# Altium footprint library DXPpcb.PCBLIB: 575 footprints (part 9 of 36)
Each footprint in its own frame and in the unit in brackets; x right, y up, seen from the top. Pads: shape width x height; smd on the part's side, far side on the other; paste and mask are expansions set on the pad; w line width, h text height; cw(c..) or ccw(c..) is an arc to the next point about the centre after c.
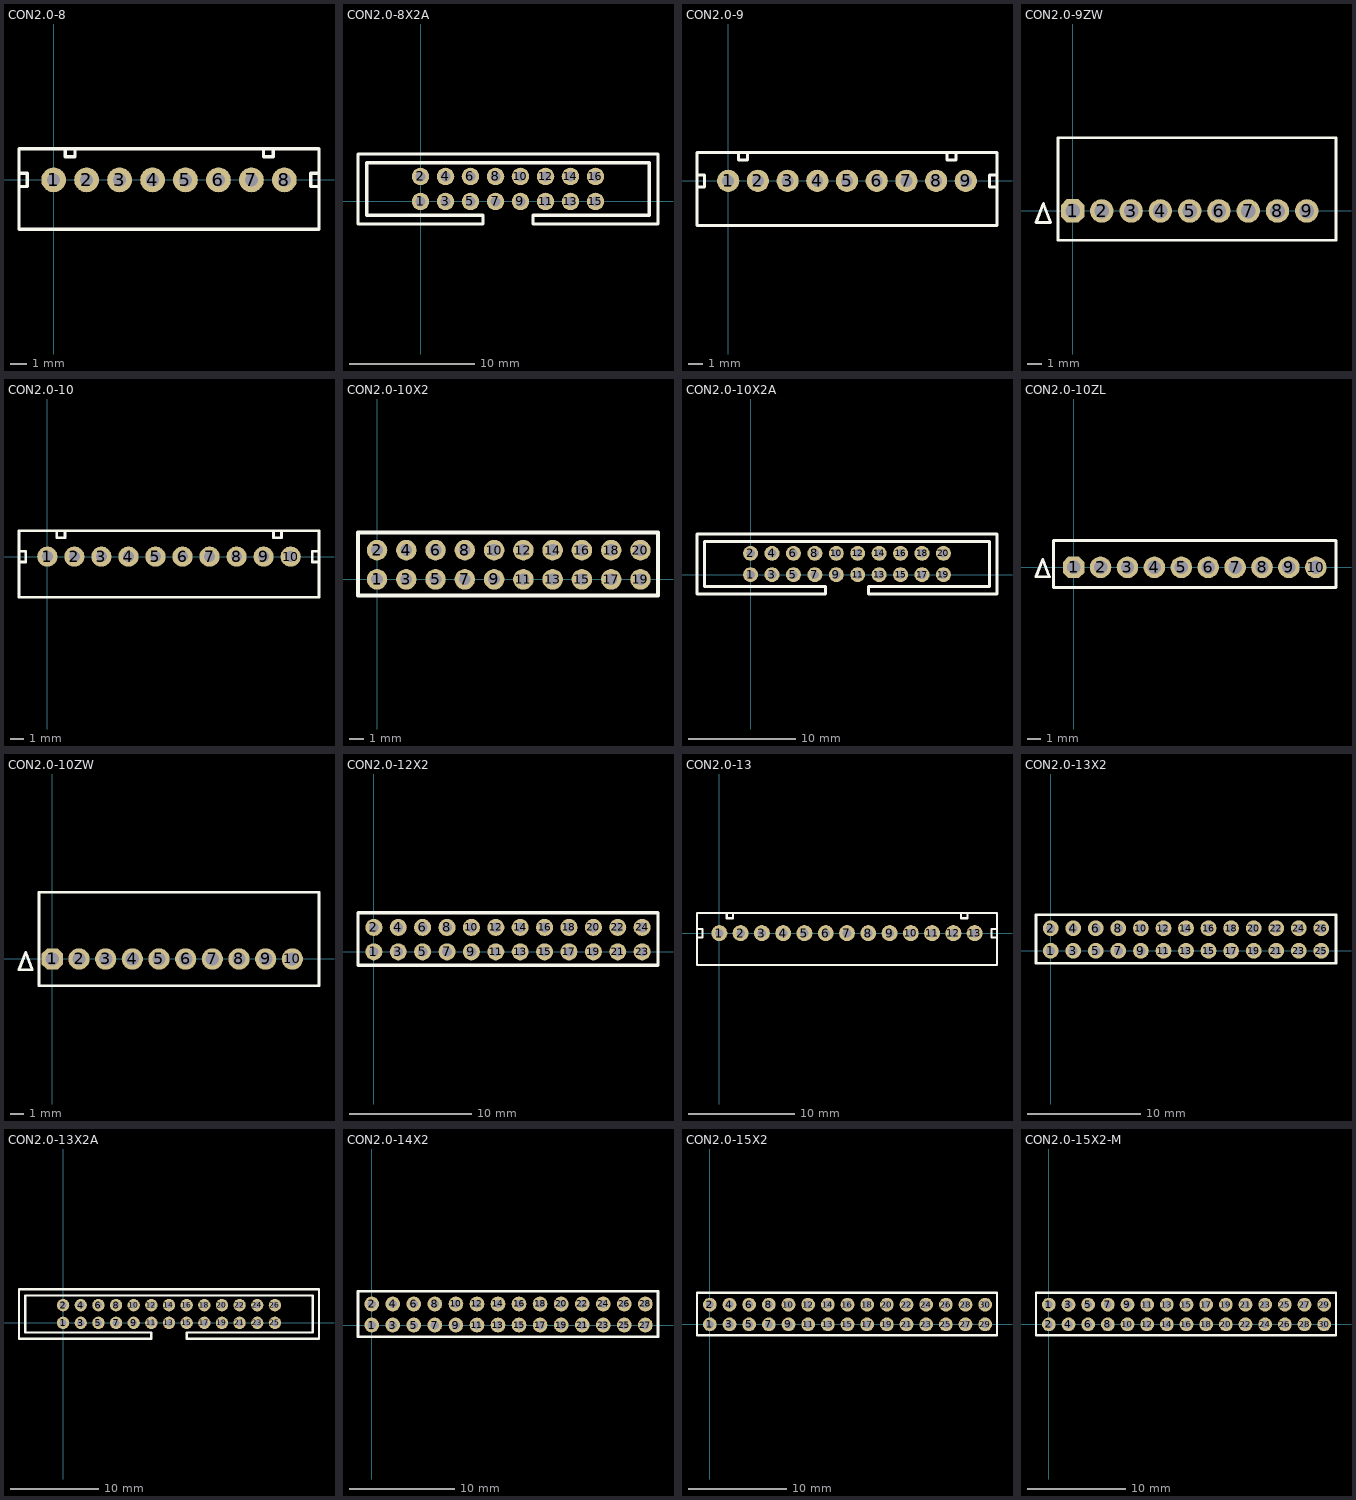
[diagram p8: the footprints below, top view; thin cyan lines are the x and y axes]

## CON2.0-8 [mm]
pads (8):
  round 1.5 hole 0.8: 1(0,0) 2(2,0) 3(4,0) 4(6,0) 5(8,0) 6(10,0) 7(12,0) 8(14,0)
TopOverlay:
  lines w0.2: -2.1,-0.4 -1.6,-0.4 -1.6,0.4 -2.1,0.4 ; 0.7,1.9 0.7,1.4 1.3,1.4 1.3,1.9 ; 12.728,1.9 12.728,1.4 13.328,1.4 13.328,1.9 ; 16.1,-0.4 15.6,-0.4 15.6,0.4 16.1,0.4 ; -2.1,-3 16.1,-3 16.1,1.9 -2.1,1.9 -2.1,-3

## CON2.0-8X2A [mm]
pads (16):
  round 1.4 hole 0.8: 1(0,0) 2(0,2) 3(2,0) 4(2,2) 5(4,0) 6(4,2) 7(6,0) 8(6,2) 9(8,0) 10(8,2) 11(10,0) 12(10,2) 13(12,0) 14(12,2) 15(14,0) 16(14,2)
TopOverlay:
  lines w0.254: -5,-1.8 -5,3.8 19,3.8 19,-1.8 9,-1.8 9,-1.1 18.3,-1.1 18.3,3.1 -4.3,3.1 -4.3,-1.1 5,-1.1 5,-1.8 -5,-1.8

## CON2.0-9 [mm]
pads (9):
  round 1.5 hole 0.8: 1(0,0) 2(2,0) 3(4,0) 4(6,0) 5(8,0) 6(10,0) 7(12,0) 8(14,0) 9(16,0)
TopOverlay:
  lines w0.2: -2.1,-0.4 -1.6,-0.4 -1.6,0.4 -2.1,0.4 ; 0.7,1.9 0.7,1.4 1.3,1.4 1.3,1.9 ; 14.728,1.9 14.728,1.4 15.328,1.4 15.328,1.9 ; 18.1,-0.4 17.6,-0.4 17.6,0.4 18.1,0.4 ; -2.1,-3 -2.1,1.9 18.1,1.9 18.1,-3 -2.1,-3

## CON2.0-9ZW [mm]
pads (9):
  oct 1.6x1.6 hole 1: 1(0,0)
  round 1.6 hole 1: 2(2,0) 3(4,0) 4(6,0) 5(8,0) 6(10,0) 7(12,0) 8(14,0) 9(16,0)
TopOverlay:
  lines w0.2: -2.5,-0.8 -2,0.5 -1.5,-0.8 -2.5,-0.8 ; -1,-2 -1,5 18,5 18,-2 -1,-2

## CON2.0-10 [mm]
pads (10):
  round 1.5 hole 0.8: 1(0,0) 2(2,0) 3(4,0) 4(6,0) 5(8,0) 6(10,0) 7(12,0) 8(14,0) 9(16,0) 10(18,0)
TopOverlay:
  lines w0.2: -2.1,-0.4 -1.6,-0.4 -1.6,0.4 -2.1,0.4 ; 0.7,1.9 0.7,1.4 1.3,1.4 1.3,1.9 ; 16.728,1.9 16.728,1.4 17.328,1.4 17.328,1.9 ; 20.1,-0.4 19.6,-0.4 19.6,0.4 20.1,0.4 ; -2.1,-3 -2.1,1.9 20.1,1.9 20.1,-3 -2.1,-3

## CON2.0-10X2 [mm]
pads (20):
  round 1.4 hole 0.8: 1(0,0) 2(0,2) 3(2,0) 4(2,2) 5(4,0) 6(4,2) 7(6,0) 8(6,2) 9(8,0) 10(8,2) 11(10,0) 12(10,2) 13(12,0) 14(12,2) 15(14,0) 16(14,2) 17(16,0) 18(16,2) 19(18,0) 20(18,2)
TopOverlay:
  lines w0.254: -1.3,-1.1 -1.3,3.2 19.2,3.2 19.2,-1.1 -1.3,-1.1

## CON2.0-10X2A [mm]
pads (20):
  round 1.4 hole 0.8: 1(0,0) 2(0,2) 3(2,0) 4(2,2) 5(4,0) 6(4,2) 7(6,0) 8(6,2) 9(8,0) 10(8,2) 11(10,0) 12(10,2) 13(12,0) 14(12,2) 15(14,0) 16(14,2) 17(16,0) 18(16,2) 19(18,0) 20(18,2)
TopOverlay:
  lines w0.254: -5,-1.8 -5,3.8 23,3.8 23,-1.8 11,-1.8 11,-1.1 22.3,-1.1 22.3,3.1 -4.3,3.1 -4.3,-1.1 7,-1.1 7,-1.8 -5,-1.8

## CON2.0-10ZL [mm]
pads (10):
  oct 1.6x1.6 hole 1: 1(0,0)
  round 1.6 hole 1: 2(2,0) 3(4,0) 4(6,0) 5(8,0) 6(10,0) 7(12,0) 8(14,0) 9(16,0) 10(18,0)
TopOverlay:
  lines w0.2: -2.8,-0.7 -2.3,0.6 -1.8,-0.7 -2.8,-0.7 ; -1.5,-1.5 -1.5,2 19.5,2 19.5,-1.5 -1.5,-1.5

## CON2.0-10ZW [mm]
pads (10):
  oct 1.6x1.6 hole 1: 1(0,0)
  round 1.6 hole 1: 2(2,0) 3(4,0) 4(6,0) 5(8,0) 6(10,0) 7(12,0) 8(14,0) 9(16,0) 10(18,0)
TopOverlay:
  lines w0.2: -2.5,-0.8 -1.5,-0.8 -2,0.5 -2.5,-0.8 ; -1,-2 20,-2 20,5 -1,5 -1,-2

## CON2.0-12X2 [mm]
pads (24):
  round 1.4 hole 0.8: 1(0,0) 2(0,2) 3(2,0) 4(2,2) 5(4,0) 6(4,2) 7(6,0) 8(6,2) 9(8,0) 10(8,2) 11(10,0) 12(10,2) 13(12,0) 14(12,2) 15(14,0) 16(14,2) 17(16,0) 18(16,2) 19(18,0) 20(18,2) 21(20,0) 22(20,2) 23(22,0) 24(22,2)
TopOverlay:
  lines w0.254: -1.3,-1.1 23.3,-1.1 23.3,3.2 -1.3,3.2 -1.3,-1.1

## CON2.0-13 [mm]
pads (13):
  round 1.5 hole 0.8: 1(0,0) 2(2,0) 3(4,0) 4(6,0) 5(8,0) 6(10,0) 7(12,0) 8(14,0) 9(16,0) 10(18,0) 11(20,0) 12(22,0) 13(24,0)
TopOverlay:
  lines w0.2: -2.1,-0.4 -1.6,-0.4 -1.6,0.4 -2.1,0.4 ; 0.7,1.9 0.7,1.4 1.3,1.4 1.3,1.9 ; 20.1,-0.4 19.6,-0.4 19.6,0.4 20.1,0.4 ; 22.728,1.9 22.728,1.4 23.328,1.4 23.328,1.9 ; 26.1,-0.4 25.6,-0.4 25.6,0.4 26.1,0.4 ; -2.1,-3 -2.1,1.9 26.1,1.9 26.1,-3 -2.1,-3

## CON2.0-13X2 [mm]
pads (26):
  round 1.4 hole 0.8: 1(0,0) 2(0,2) 3(2,0) 4(2,2) 5(4,0) 6(4,2) 7(6,0) 8(6,2) 9(8,0) 10(8,2) 11(10,0) 12(10,2) 13(12,0) 14(12,2) 15(14,0) 16(14,2) 17(16,0) 18(16,2) 19(18,0) 20(18,2) 21(20,0) 22(20,2) 23(22,0) 24(22,2) 25(24,0) 26(24,2)
TopOverlay:
  lines w0.254: -1.3,-1.1 25.3,-1.1 25.3,3.2 -1.3,3.2 -1.3,-1.1

## CON2.0-13X2A [mm]
pads (26):
  round 1.4 hole 0.8: 1(0,0) 2(0,2) 3(2,0) 4(2,2) 5(4,0) 6(4,2) 7(6,0) 8(6,2) 9(8,0) 10(8,2) 11(10,0) 12(10,2) 13(12,0) 14(12,2) 15(14,0) 16(14,2) 17(16,0) 18(16,2) 19(18,0) 20(18,2) 21(20,0) 22(20,2) 23(22,0) 24(22,2) 25(24,0) 26(24,2)
TopOverlay:
  lines w0.254: -5,-1.8 -5,3.8 29,3.8 29,-1.8 14,-1.8 14,-1.1 28.3,-1.1 28.3,3.1 -4.3,3.1 -4.3,-1.1 10,-1.1 10,-1.8 -5,-1.8

## CON2.0-14X2 [mm]
pads (28):
  round 1.4 hole 0.8: 1(0,0) 2(0,2) 3(2,0) 4(2,2) 5(4,0) 6(4,2) 7(6,0) 8(6,2) 9(8,0) 10(8,2) 11(10,0) 12(10,2) 13(12,0) 14(12,2) 15(14,0) 16(14,2) 17(16,0) 18(16,2) 19(18,0) 20(18,2) 21(20,0) 22(20,2) 23(22,0) 24(22,2) 25(24,0) 26(24,2) 27(26,0) 28(26,2)
TopOverlay:
  lines w0.254: -1.3,-1.1 27.2,-1.1 27.2,3.2 -1.3,3.2 -1.3,-1.1

## CON2.0-15X2 [mm]
pads (30):
  round 1.4 hole 0.8: 1(0,0) 2(0,2) 3(2,0) 4(2,2) 5(4,0) 6(4,2) 7(6,0) 8(6,2) 9(8,0) 10(8,2) 11(10,0) 12(10,2) 13(12,0) 14(12,2) 15(14,0) 16(14,2) 17(16,0) 18(16,2) 19(18,0) 20(18,2) 21(20,0) 22(20,2) 23(22,0) 24(22,2) 25(24,0) 26(24,2) 27(26,0) 28(26,2) 29(28,0) 30(28,2)
TopOverlay:
  lines w0.254: -1.3,-1.1 29.2,-1.1 29.2,3.2 -1.3,3.2 -1.3,-1.1

## CON2.0-15X2-M [mm]
pads (30):
  round 1.4 hole 0.8: 1(0,2) 2(0,0) 3(2,2) 4(2,0) 5(4,2) 6(4,0) 7(6,2) 8(6,0) 9(8,2) 10(8,0) 11(10,2) 12(10,0) 13(12,2) 14(12,0) 15(14,2) 16(14,0) 17(16,2) 18(16,0) 19(18,2) 20(18,0) 21(20,2) 22(20,0) 23(22,2) 24(22,0) 25(24,2) 26(24,0) 27(26,2) 28(26,0) 29(28,2) 30(28,0)
TopOverlay:
  lines w0.254: -1.3,-1.1 -1.3,3.2 29.2,3.2 29.2,-1.1 -1.3,-1.1